# Altium schematic symbol library ASPI-0630LR-150M-T15.SchLib: 2 symbols
Pins are listed as number, name and electrical type; pins without a type are passive.

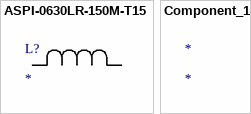
[diagram p0: symbols ASPI-0630LR-150M-T15 to Component_1]

## ASPI-0630LR-150M-T15
designator L?
No Description Available; Mfr_Name: Abracon; Type: Fixed Inductors
footprint IND_ASPI-0630LR_ABR
pins: 1, 2

## Component_1
designator *